# Altium footprint library MegaProject_Lib.PcbLib: 18 footprints (part 1 of 2)
Each footprint in its own frame and in the unit in brackets; x right, y up, seen from the top. Pads: shape width x height; smd on the part's side, far side on the other; paste and mask are expansions set on the pad; w line width, h text height; cw(c..) or ccw(c..) is an arc to the next point about the centre after c.
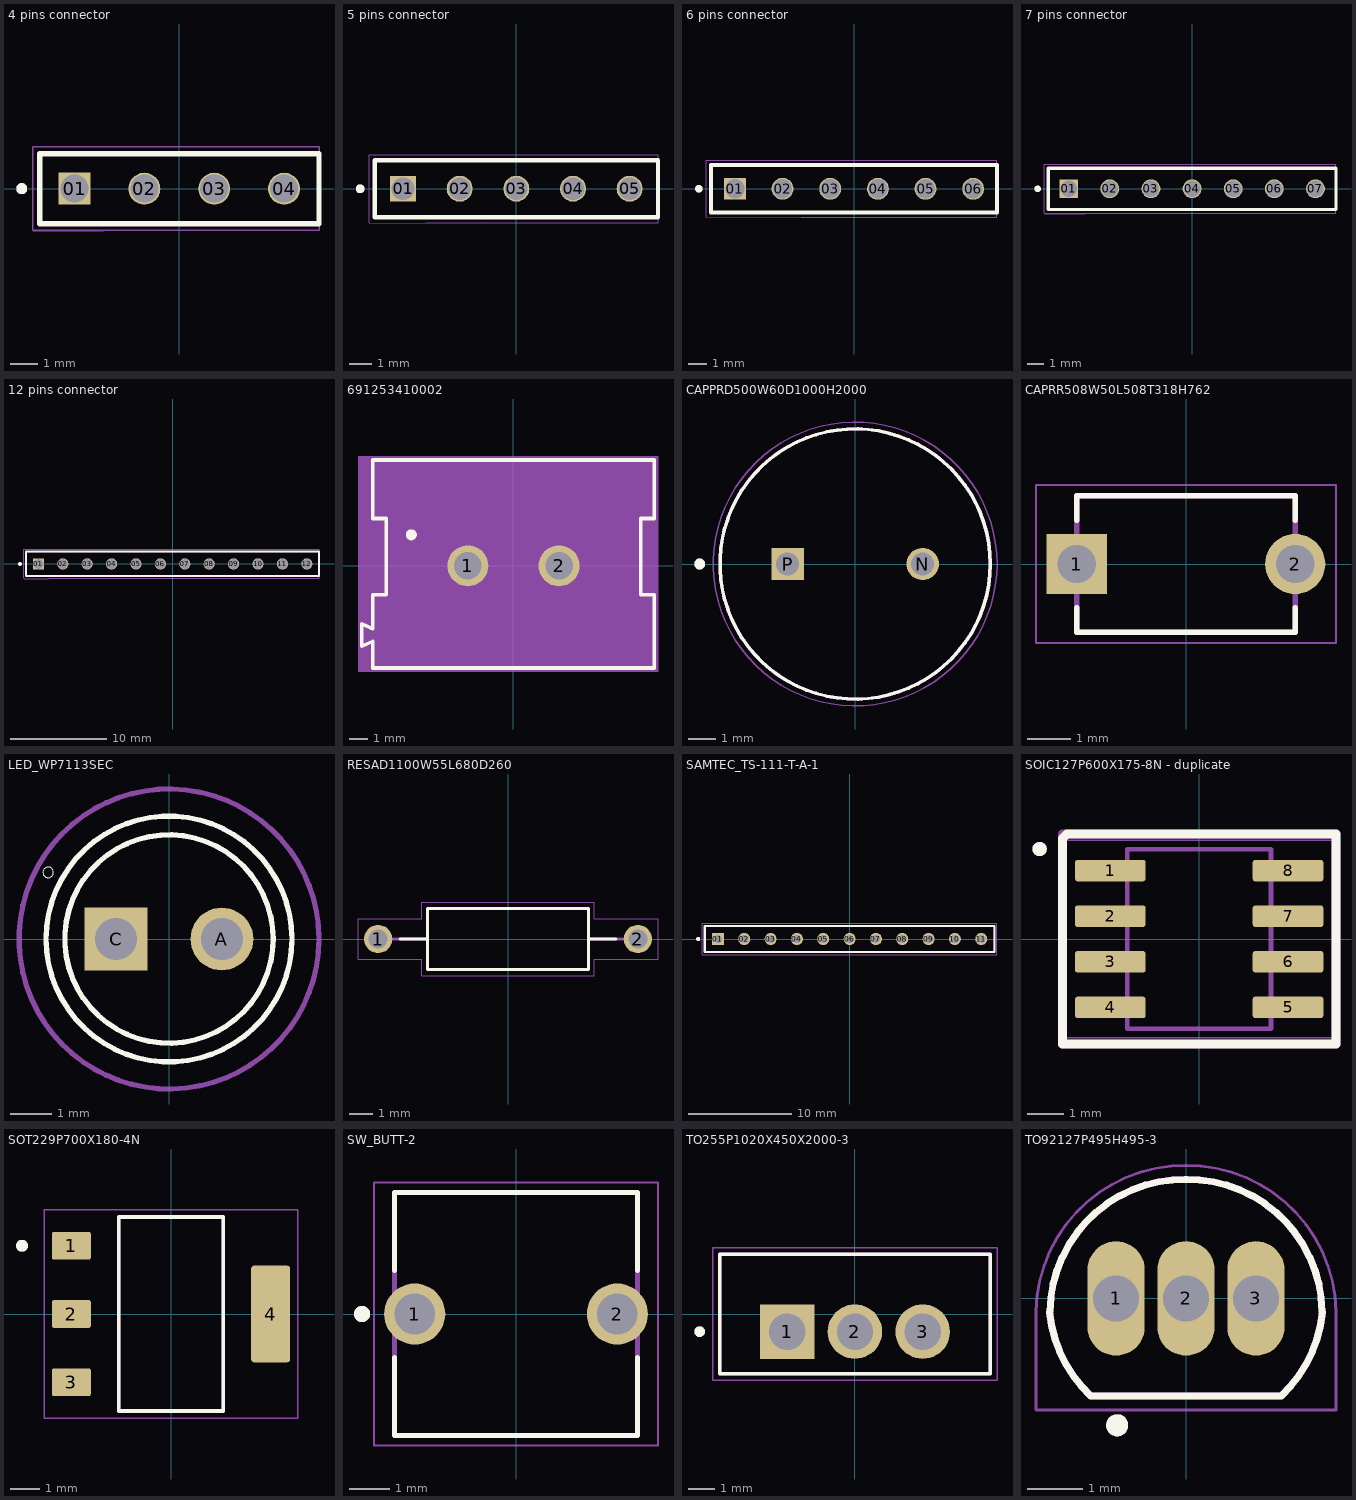
[diagram p0: the footprints below, top view; thin cyan lines are the x and y axes]

## 4 pins connector [mm]
pads (4):
  rect 1.163x1.163 hole 1.02: 01(-3.81,0)
  round 1.163 hole 1.02: 02(-1.27,0) 03(1.27,0) 04(3.81,0)
Top Overlay:
  circle w0.2: c-5.73,0 r0.1
  lines w0.2: -2.54,-1.27 -5.08,-1.27 ; -2.54,1.27 -5.08,1.27 ; -5.08,-1.27 -5.08,1.27 ; -5.08,-1.27 5.08,-1.27 5.08,-0.635 5.08,0.635 5.08,1.27 -5.08,1.27
Mechanical 13:
  circle w0.2: c-5.73,0 r0.1
  lines w0.1: -5.08,-1.27 -2.54,-1.27 -5.08,-1.27 ; -5.08,-1.27 -5.08,1.27 ; -5.08,-1.27 -5.08,1.27 ; -5.08,-1.27 5.08,-1.27 ; -5.08,1.27 -2.54,1.27 -5.08,1.27 ; -5.08,1.27 5.08,1.27 ; -5.08,1.27 5.08,1.27 ; 5.08,-1.27 5.08,-0.635 5.08,0.635 5.08,1.27 ; 5.08,-1.27 5.08,1.27
Mechanical 15:
  lines w0.05: -5.335,-1.52 5.08,-1.52 5.08,1.52 -5.318,1.52 ; -5.33,-1.52 -5.33,1.52 ; -5.323,1.516 -2.805,1.516 ; -5.304,-1.544 -2.774,-1.526

## 5 pins connector [mm]
pads (5):
  rect 1.163x1.163 hole 1.02: 01(-5.08,0)
  round 1.163 hole 1.02: 02(-2.54,0) 03(0,0) 04(2.54,0) 05(5.08,0)
Top Overlay:
  circle w0.2: c-7,0 r0.1
  lines w0.2: -3.81,-1.27 6.35,-1.27 6.35,-0.635 6.35,0.635 6.35,1.27 -3.81,1.27 ; -1.27,-1.27 -6.35,-1.27 -6.35,1.27 -1.27,1.27
Mechanical 13:
  circle w0.2: c-7,0 r0.1
  lines w0.1: -3.81,-1.27 6.35,-1.27 ; -6.35,-1.27 -1.27,-1.27 -6.35,-1.27 ; -6.35,-1.27 -6.35,1.27 ; -6.35,-1.27 -6.35,1.27 ; -6.35,1.27 -1.27,1.27 -6.35,1.27 ; 6.35,-1.27 6.35,-0.635 6.35,0.635 6.35,1.27 ; 6.35,-1.27 6.35,1.27 ; 6.35,1.27 -3.81,1.27 6.35,1.27
Mechanical 15:
  lines w0.05: -6.6,-1.52 -6.6,1.52 ; -6.593,1.516 -1.426,1.516 ; -6.574,-1.544 -1.539,-1.508 ; -4.065,-1.52 6.35,-1.52 6.35,1.52 -4.048,1.52

## 6 pins connector [mm]
pads (6):
  rect 1.163x1.163 hole 1.02: 01(-6.35,0)
  round 1.163 hole 1.02: 02(-3.81,0) 03(-1.27,0) 04(1.27,0) 05(3.81,0) 06(6.35,0)
Top Overlay:
  circle w0.2: c-8.27,0 r0.1
  lines w0.2: -7.62,-1.27 -7.62,1.27 -2.54,1.27 7.62,1.27 7.62,0.635 7.62,-0.635 7.62,-1.27 -2.54,-1.27 -7.62,-1.27
Mechanical 13:
  circle w0.2: c-8.27,0 r0.1
  lines w0.1: -7.62,-1.27 -7.62,1.27 ; -7.62,-1.27 -7.62,1.27 ; -7.62,-1.27 -2.54,-1.27 ; -7.62,-1.27 -2.54,-1.27 ; -7.62,1.27 -2.54,1.27 ; -7.62,1.27 -2.54,1.27 ; -2.54,-1.27 7.62,-1.27 ; -2.54,1.27 7.62,1.27 ; -2.54,1.27 7.62,1.27 ; 7.62,-1.27 7.62,1.27 ; 7.62,-1.27 7.62,-0.635 7.62,0.635 7.62,1.27
Mechanical 15:
  lines w0.05: -7.87,-1.52 -7.87,1.52 ; -7.863,1.516 -2.696,1.516 ; -7.844,-1.544 -2.809,-1.508 ; -2.795,-1.52 7.62,-1.52 7.62,1.52 -2.778,1.52

## 7 pins connector [mm]
pads (7):
  rect 1.163x1.163 hole 1.02: 01(-7.62,0)
  round 1.163 hole 1.02: 02(-5.08,0) 03(-2.54,0) 04(0,0) 05(2.54,0) 06(5.08,0) 07(7.62,0)
Top Overlay:
  circle w0.2: c-9.54,0 r0.1
  lines w0.2: -6.35,-1.27 -8.89,-1.27 ; -6.35,1.27 -8.89,1.27 ; -8.89,-1.27 8.89,-1.27 8.89,1.27 -8.89,1.27 ; -8.89,-1.27 -8.89,1.27
Mechanical 13:
  circle w0.2: c-9.54,0 r0.1
  lines w0.1: -8.89,-1.27 -6.35,-1.27 -8.89,-1.27 ; -8.89,-1.27 8.89,-1.27 ; -8.89,-1.27 -8.89,1.27 ; -8.89,-1.27 -8.89,1.27 ; -8.89,1.27 -6.35,1.27 -8.89,1.27 ; -8.89,1.27 8.89,1.27 ; -8.89,1.27 8.89,1.27 ; 8.89,-1.27 8.89,1.27 ; 8.89,-1.27 8.89,-0.635 8.89,0.635 8.89,1.27
Mechanical 15:
  lines w0.05: -9.14,-1.52 -9.14,1.52 ; -9.133,1.516 -6.615,1.516 ; -9.114,-1.544 -6.584,-1.526 ; -9.098,-1.52 8.89,-1.52 8.89,1.52 -9.077,1.52

## 12 pins connector [mm]
pads (12):
  rect 1.163x1.163 hole 1.02: 01(-13.97,0)
  round 1.163 hole 1.02: 02(-11.43,0) 03(-8.89,0) 04(-6.35,0) 05(-3.81,0) 06(-1.27,0) 07(1.27,0) 08(3.81,0) 09(6.35,0) 10(8.89,0) 11(11.43,0) 12(13.97,0)
Top Overlay:
  circle w0.2: c-15.89,0 r0.1
  lines w0.2: -15.24,-1.27 -12.7,-1.27 15.24,-1.27 15.24,1.27 -12.7,1.27 -15.24,1.27 -15.24,-1.27
Mechanical 13:
  circle w0.2: c-15.89,0 r0.1
  lines w0.1: -15.24,-1.27 -12.7,-1.27 ; -15.24,-1.27 -12.7,-1.27 ; -15.24,-1.27 -15.24,1.27 ; -15.24,-1.27 -15.24,1.27 ; -15.24,1.27 -12.7,1.27 ; -15.24,1.27 -12.7,1.27 ; -12.7,-1.27 15.24,-1.27 ; -12.7,1.27 15.24,1.27 ; -12.7,1.27 15.24,1.27 ; 15.24,-1.27 15.24,1.27 ; 15.24,-1.27 15.24,-0.635 15.24,0.635 15.24,1.27
Mechanical 15:
  lines w0.05: -15.49,-1.52 -15.49,1.52 ; -15.483,1.516 -12.965,1.516 ; -15.464,-1.544 -12.934,-1.526 ; -12.95,-1.52 15.24,-1.52 15.24,1.52 -12.95,1.52

## 691253410002 [mm]
pads (2):
  round 2.25 hole 1.5: 1(-2.5,0) 2(2.5,0)
Top Overlay:
  circle w0.4: c-5.6,1.7 r0.1
  lines w0.2: -8.32,-4.41 -7.72,-4.15 -7.72,-5.6 7.72,-5.6 7.72,-1.59 6.97,-1.59 6.97,2.59 7.72,2.59 7.72,5.8 -7.72,5.8 -7.72,2.59 -6.97,2.59 -6.97,-1.59 -7.72,-1.59 -7.72,-3.44 -8.32,-3.18 -8.32,-4.41
Mechanical 13:
  lines w0.1: -8.22,-4.31 -8.22,-3.28 -7.62,-3.54 -7.62,-1.69 -6.87,-1.69 -6.87,2.69 -7.62,2.69 -7.62,5.7 7.62,5.7 7.62,2.69 6.87,2.69 6.87,-1.69 7.62,-1.69 7.62,-5.5 -7.62,-5.5 -7.62,-4.05 -8.22,-4.31
Mechanical 15:
  region: 7.92,-5.8 -8.52,-5.8 -8.52,6 7.92,6

## CAPPRD500W60D1000H2000 [mm]
pads (2):
  round 1.2 hole 0.85: N(2.5,0)
  rect 1.2x1.2 hole 0.85: P(-2.5,0)
Top Overlay:
  circle w0.2: c-5.75,0 r0.1
  circle w0.127: c0,0 r5
Mechanical 13:
  circle w0.2: c-5.75,0 r0.1
  circle w0.127: c0,0 r5
Mechanical 15:
  circle w0.05: c0,0 r5.25
3D body "step_temp.STEP": height 20, standoff -17, extent -5,-5 5,5

## CAPRR508W50L508T318H762 [mm]
pads (2):
  rect 1.398x1.398 / inner round 1.398 / far side rect 1.398x1.398 hole 0.89: 1(-2.54,0)
  round 1.398 hole 0.89: 2(2.54,0)
Top Overlay:
  lines w0.127: -2.54,-1.019 -2.54,-1.587 2.54,-1.587 2.54,-1.019 ; -2.54,1.019 -2.54,1.587 2.54,1.587 2.54,1.019
Mechanical 13:
  lines w0.127: -2.54,-1.587 -2.54,1.587 2.54,1.587 2.54,-1.587 -2.54,-1.587
Mechanical 15:
  lines w0.05: -3.489,-1.837 -3.489,1.837 3.489,1.837 3.489,-1.837 -3.489,-1.837

## LED_WP7113SEC [mm]
pads (2):
  round 1.508 hole 1: A(1.27,0)
  rect 1.508x1.508 hole 1: C(-1.27,0)
Top Overlay:
  circle w0: c-2.9,1.6 r0.127
  circle w0.127: c0,0 r2.5
  circle w0.127: c0,0 r2.95
Mechanical 15:
  circle w0.127: c0,0 r3.6

## RESAD1100W55L680D260 [mm]
pads (2):
  round 1.2 hole 0.8: 1(-5.5,0) 2(5.5,0)
Top Overlay:
  lines w0.127: -4.58,0 -3.4,0 ; 4.58,0 3.4,0 ; -3.4,0 -3.4,1.3 3.4,1.3 3.4,0 ; -3.4,0 -3.4,-1.3 3.4,-1.3 3.4,0
Mechanical 13:
  lines w0.127: -4.9,0 -3.4,0 ; 4.9,0 3.4,0 ; -3.4,0 -3.4,1.3 3.4,1.3 3.4,0 ; -3.4,0 -3.4,-1.3 3.4,-1.3 3.4,0
Mechanical 15:
  lines w0.05: -6.35,-0.85 -3.65,-0.85 -3.65,-1.55 3.65,-1.55 3.65,-0.85 6.35,-0.85 6.35,0.85 3.65,0.85 3.65,1.55 -3.65,1.55 -3.65,0.85 -6.35,0.85 -6.35,-0.85

## SAMTEC_TS-111-T-A-1 [mil]
pads (11):
  rect 45.78x45.78 / inner round 45.78 / far side rect 45.78x45.78 hole 32: 01(-500,0)
  round 45.78 hole 32: 02(-400,0) 03(-300,0) 04(-200,0) 05(-100,0) 06(0,0) 07(100,0) 08(200,0) 09(300,0) 10(400,0) 11(500,0)
Top Overlay:
  circle w7.87: c-575.59,0 r3.94
  lines w7.87: -550,-50 -550,50 550,50 550,-50 -550,-50
Mechanical 13:
  circle w7.87: c-575.59,0 r3.94
  lines w3.94: -550,-50 -550,50 ; -550,-50 550,-50 ; -550,-50 -550,50 ; -550,50 550,50 ; -550,50 550,50 ; 550,-50 550,50 ; 550,-50 550,50
Mechanical 15:
  lines w1.97: -559.84,-59.84 -559.84,59.84 559.84,59.84 559.84,-59.84 -559.84,-59.84

## SOIC127P600X175-8N - duplicate [mm]
pads (8):
  rrect25% 1.97x0.6 smd: 1(-2.475,1.905) 2(-2.475,0.635) 3(-2.475,-0.635) 4(-2.475,-1.905) 5(2.475,-1.905) 6(2.475,-0.635) 7(2.475,0.635) 8(2.475,1.905)
Top Overlay:
  circle w0.2: c-4.445,2.505 r0.1
  lines w0.254: -3.81,-2.921 3.81,-2.921 3.81,2.921 -3.683,2.921 -3.81,2.794 -3.81,-2.921
Mechanical 13:
  circle w0.2: c-4.445,2.505 r0.1
  lines w0.127: -2,-2.5 2,-2.5 2,2.5 -2,2.5 -2,-2.5
Mechanical 15:
  lines w0.05: -3.71,-2.75 3.71,-2.75 3.71,2.75 -3.71,2.75 -3.71,-2.75
Mechanical 29:
  lines w0.254: -3.81,-2.921 3.81,-2.921 3.81,2.921 -3.81,2.921 -3.81,-2.921
  text ".Designator" at -2.286,-0.381 h1.52
3D body "step_temp.STEP": height 1.75, standoff 0, extent -3,-2.45 3,2.45

## SOT229P700X180-4N [mm]
height 1.8
pads (4):
  rrect15% 1.31x0.93 smd: 1(-3.345,2.29) 2(-3.345,0) 3(-3.345,-2.29)
  rrect15% 1.31x3.24 smd: 4(3.345,0)
Top Overlay:
  circle w0.2: c-5,2.29 r0.1
  lines w0.127: -1.753,-3.253 1.753,-3.253 1.753,3.253 -1.753,3.253 -1.753,-3.253
Mechanical 13:
  circle w0.2: c-5,2.29 r0.1
  lines w0.127: -1.753,-3.253 1.753,-3.253 1.753,3.253 -1.753,3.253 -1.753,-3.253
Mechanical 15:
  lines w0.05: -4.25,-3.502 -4.25,3.502 4.25,3.502 4.25,-3.502 -4.25,-3.502
3D body "step_temp.STEP": height 1.8, standoff 0, extent -3.499,-3.251 3.499,3.251

## SW_BUTT-2 [mm]
height 9.5
pads (2):
  round 1.508 hole 1: 1(-2.5,0) 2(2.5,0)
Top Overlay:
  circle w0.2: c-3.8,0 r0.1
  lines w0.127: -3,-1.075 -3,-3 3,-3 3,-1.075 ; -3,1.075 -3,3 3,3 3,1.075
Mechanical 13:
  circle w0.2: c-3.8,0 r0.1
  lines w0.127: -3,-3 -3,3 3,3 3,-3 -3,-3
Mechanical 15:
  lines w0.05: -3.504,-3.25 3.504,-3.25 3.504,3.25 -3.504,3.25 -3.504,-3.25

## TO255P1020X450X2000-3 [mm]
height 20
pads (3):
  rect 2.055x2.055 / inner round 2.055 / far side rect 2.055x2.055 hole 1.37: 1(-2.55,-0.663)
  round 2.055 hole 1.37: 2(0,-0.663) 3(2.55,-0.663)
Top Overlay:
  circle w0.2: c-5.85,-0.663 r0.1
  lines w0.127: -5.1,-2.25 5.1,-2.25 5.1,2.25 -5.1,2.25 -5.1,-2.25
Mechanical 13:
  circle w0.2: c-5.85,-0.663 r0.1
  lines w0.127: -5.1,-2.25 5.1,-2.25 5.1,2.25 -5.1,2.25 -5.1,-2.25
Mechanical 15:
  lines w0.05: -5.35,-2.5 5.35,-2.5 5.35,2.5 -5.35,2.5 -5.35,-2.5
3D body "step_temp.STEP": height 20, standoff -10.6, extent -5.1,-2.25 5.1,2.25

## TO92127P495H495-3 [mm]
height 4.95
pads (3):
  oval 1.04x2.08 hole 0.84: 1(-1.27,0) 2(0,0) 3(1.27,0)
Top Overlay:
  circle w0.2: c-1.25,-2.305 r0.1
  lines w0.127: -2.476,-0.242 ccw(c-0.116,-0.036) -1.732,-1.769 ; -2.475,-0.24 cw(c-0.028,-0.282) 0.015,2.165 ; -1.725,-1.775 1.725,-1.775 ; -0.015,2.165 cw(c0.028,-0.282) 2.475,-0.24 ; 1.732,-1.769 ccw(c0.116,-0.036) 2.476,-0.242
Mechanical 13:
  circle w0.2: c-1.25,-2.305 r0.1
  lines w0.127: -2.476,-0.242 ccw(c-0.116,-0.036) -1.732,-1.769 ; -2.475,-0.24 cw(c-0.028,-0.282) 0.015,2.165 ; -1.725,-1.775 1.725,-1.775 ; -0.015,2.165 cw(c0.028,-0.282) 2.475,-0.24 ; 1.732,-1.769 ccw(c0.116,-0.036) 2.476,-0.242
Mechanical 15:
  lines w0.05: -2.725,-0.255 -2.725,-2.025 2.725,-2.025 2.725,-0.255 ; -2.725,-0.235 cw(c-0.028,-0.282) 0.02,2.415 ; -0.02,2.415 cw(c0.028,-0.282) 2.725,-0.235
3D body "step_temp.STEP": height 20.44, standoff 0, extent -2.276,-1.548 2.283,2.285